# Altium footprint library TecSix16.PcbLib: 32 footprints (part 1 of 2)
Each footprint in its own frame and in the unit in brackets; x right, y up, seen from the top. Pads: shape width x height; smd on the part's side, far side on the other; paste and mask are expansions set on the pad; w line width, h text height; cw(c..) or ccw(c..) is an arc to the next point about the centre after c.
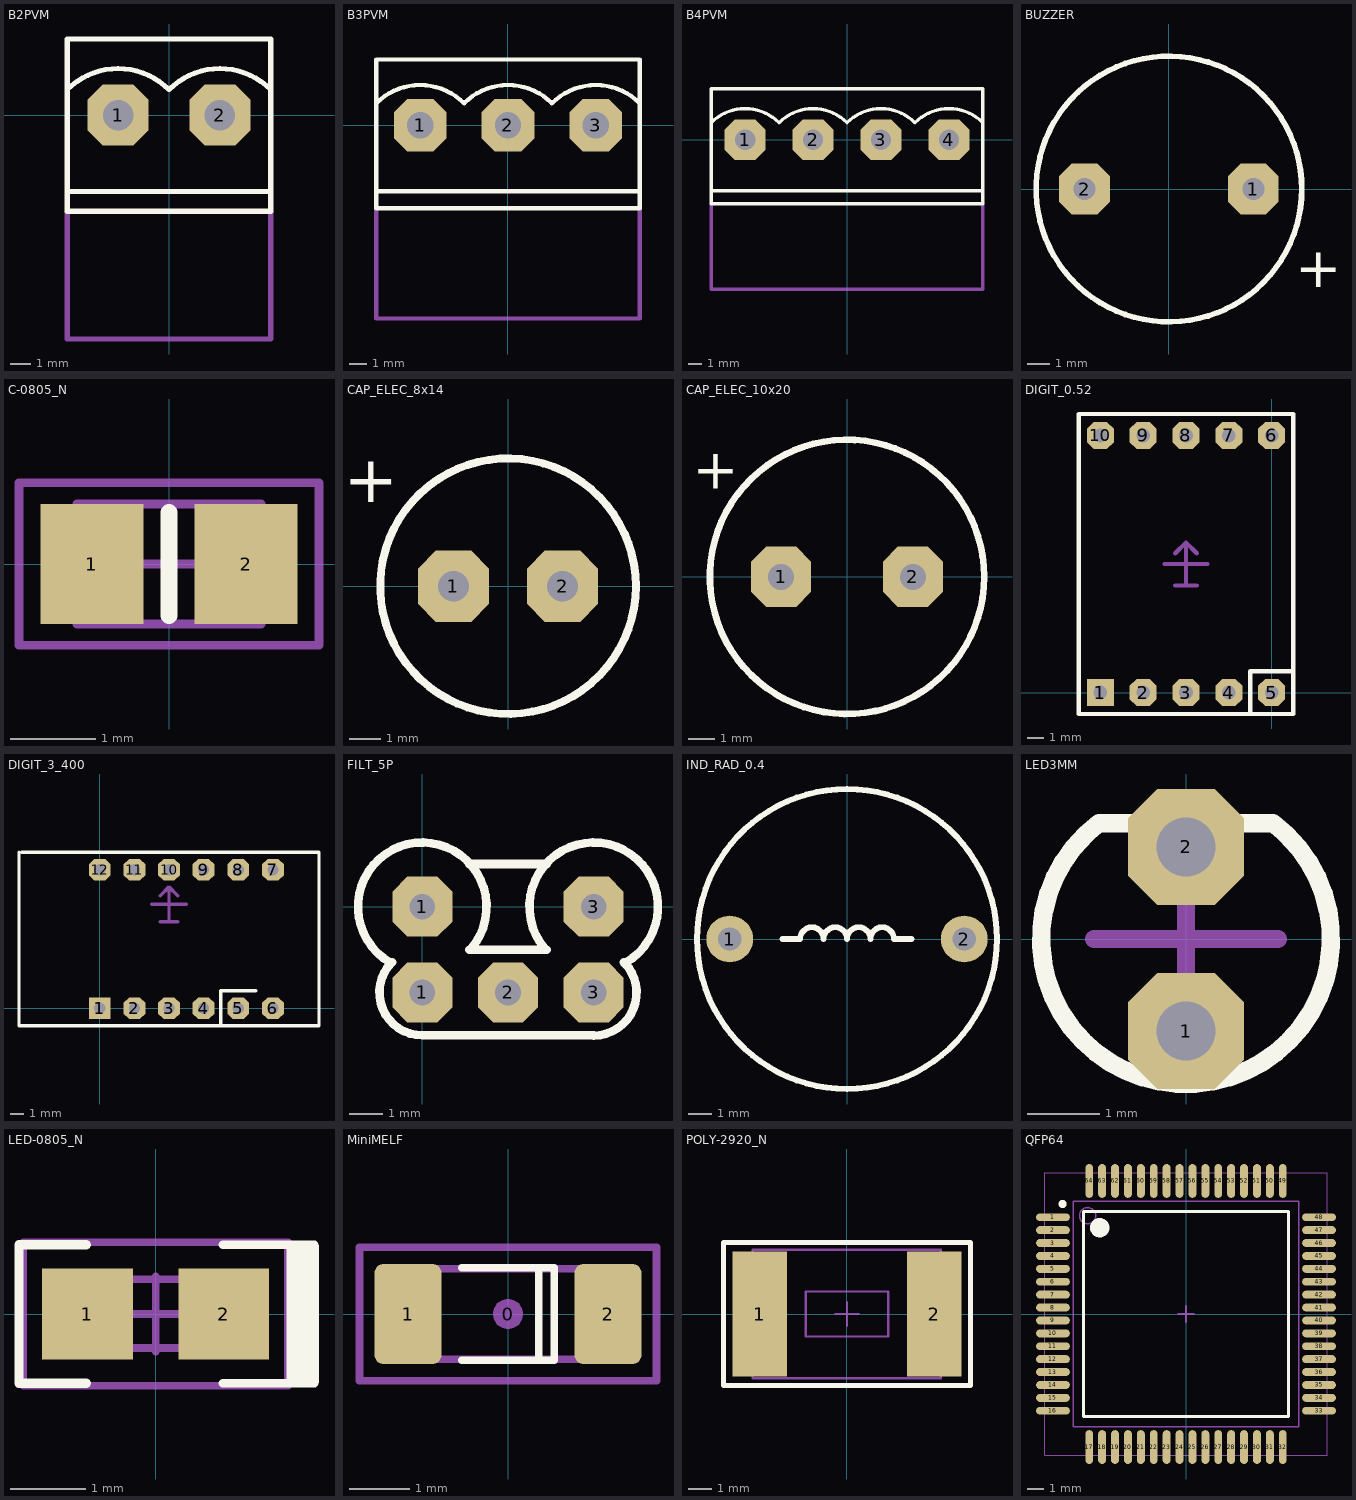
[diagram p0: the footprints below, top view; thin cyan lines are the x and y axes]

## B2PVM [mil] "MSTBV2.5/2-G-5.08,  Xinya XY2500 5.08mm"
height 472.44
pads (2):
  oct 120x120 hole 60: 1(-100,0) 2(100,0)
Top Overlay:
  lines w10: -200,-150 200,-150 ; -200,50 cw(c-100,-50) 0,50 cw(c100,-50) 200,50 ; -200,-188.98 -200,149.61 200,149.61 200,-188.98 -200,-188.98
Mechanical 1:
  lines w10: -200,-190 -200,-440 200,-440 200,-190
3D body: height 472.83, standoff -153.15, extent -200,-188.58 200,150

## B3PVM [mil] "MSTBV2.5/3-G-5.08,  Xinya XY2500 5.08mm"
height 472.44
pads (3):
  oct 120x120 hole 60: 1(-200,0) 2(0,0) 3(200,0)
Top Overlay:
  lines w10: -300,-150 300,-150 ; -299.98,50.05 cw(c-199.98,-49.95) -99.98,50.05 cw(c0.02,-49.95) 100.02,50.05 cw(c200.02,-49.95) 300.02,50.05 ; -300,-188.98 -300,149.61 300,149.61 300,-188.98 -300,-188.98
Mechanical 1:
  lines w10: -300,-190 -300,-440 300,-440 300,-190
3D body: height 472.83, standoff -153.15, extent -300,-188.58 300,150

## B4PVM [mil] "MSTBV2.5/4-G-5.08,  Xinya XY2500 5.08mm"
height 472.44
pads (4):
  oct 120x120 hole 60: 1(-300,0) 2(-100,0) 3(100,0) 4(300,0)
Top Overlay:
  lines w10: -400,-150 400,-150 ; -400,50 cw(c-300,-50) -200,50 cw(c-100.02,-49.98) -0.02,50.02 cw(c99.98,-49.98) 199.98,50.02 cw(c299.98,-49.98) 399.98,50.02 ; -400,-188.98 400,-188.98 400,149.61 -400,149.61 -400,-188.98
Mechanical 1:
  lines w10: -400,-190 -400,-440 400,-440 400,-190
3D body: height 472.83, standoff -153.15, extent -400,-188.58 400,150

## BUZZER [mil]
height 299.21
pads (2):
  oct 90x90 hole 39: 1(150,0) 2(-150,0)
Top Overlay:
  circle w10: c0,0 r236.22
  text "+" at 225,-175 h72
3D body: height 379.92, standoff -177.17, extent -240,-236.22 368.43,236.22

## C-0805_N [mm] "Chip Capacitor, Body 2.0x1.2mm, IPC Medium Density"
height 1.35
pads (2):
  rect 1.2x1.4 smd: 1(-0.9,0) 2(0.9,0)
Top Overlay:
  lines w0.2: 0,-0.6 0,0.6
Mechanical 13:
  lines w0.1: -1.075,-0.7 1.075,-0.7 1.075,0.7 -1.075,0.7 -1.075,-0.7
Mechanical 15:
  lines w0.1: -0.5,0 0.5,0 ; 0,-0.5 0,0.5 ; -1.75,-0.95 1.75,-0.95 1.75,0.95 -1.75,0.95 -1.75,-0.95
3D body: height 1.34, standoff -0.01, extent -1.1,-0.725 1.1,0.725

## CAP_ELEC_8x14 [mil] "Electrolytic capacitor 3.5mm pitch 8x14mm"
height 551.18
pads (2):
  oct 90x90 hole 39: 1(-68.9,0) 2(68.9,0)
Top Overlay:
  circle w10: c0,0 r161.42
  text "+" at -138.78,157.48 h60
3D body: height 566.93, standoff -114.17, extent -161.41,-161.41 161.42,161.42

## CAP_ELEC_10x20 [mil] "Electrolytic capacitor 0.2mm pitch 10x20mm"
height 787.4
pads (2):
  oct 90x90 hole 39: 1(-98.43,0) 2(98.43,0)
Top Overlay:
  circle w10: c0,0 r204.72
  text "+" at -161.42,183.07 h60
3D body: height 800, standoff -114.17, extent -200,-199.48 200,199.5

## DIGIT_0.52 [mil] "7 segment single digit 13.2mm (0.52\")"
height 275.59
pads (10):
  rect 63x63 hole 32: 1(-400,0)
  oct 63x63 hole 32: 2(-300,0) 3(-200,0) 4(-100,0) 5(0,0) 6(0,600) 7(-100,600) 8(-200,600) 9(-300,600) 10(-400,600)
Top Overlay:
  lines w10: -50,-50 -50,50 50,50 ; -450,-50 50,-50 50,650 -450,650 -450,-50
Mechanical 1:
  lines w10: -250,300 -150,300 ; -225,250 -175,250 ; -225,325 -200,350 ; -200,250 -200,350 ; -175,325 -200,350
3D body: height 276, standoff -157.07, extent -444.09,-44.48 44.1,644.49

## DIGIT_3_400 [mil] "7 segment single digit 400"
height 275.59
pads (12):
  rect 63x63 hole 32: 1(0,0)
  oct 63x63 hole 32: 2(100,0) 3(200,0) 4(300,0) 5(400,0) 6(500,0) 7(500,400) 8(400,400) 9(300,400) 10(200,400) 11(100,400) 12(0,400)
Top Overlay:
  lines w10: -233.07,450 -233.07,-50 633.07,-50 633.07,450 -225,450 ; 350,-50 350,50 450,50
Mechanical 1:
  lines w10: 150,300 250,300 ; 175,250 225,250 ; 175,325 200,350 ; 200,250 200,350 ; 225,325 200,350

## FILT_5P [mil]
height 472.44
pads (5):
  oct 70x70 hole 30: 1(0,-100) 1(0,0) 2(100,-100) 3(200,-100) 3(200,0)
Top Overlay:
  lines w10: -37.5,-64.95 cw(c0,0) 57.45,-48.21 ; -35.36,-64.64 ccw(c0,-100) 0,-150 200,-150 ; 55,-50.13 145,-50.13 ; 55,49.87 145,49.87 ; 142.55,-48.21 cw(c200,0) 237.5,-64.95 ; 200,-150.25 ccw(c200,-100.25) 235.36,-64.9

## IND_RAD_0.4 [mil] "Radial vertical inductor 0.4in"
height 551.18
pads (2):
  round 80 hole 40: 1(-200,0) 2(200,0)
Top Overlay:
  circle w10: c0,0 r255.91
  lines w10: -110,0 -80,0 cw(c-60,0) -40,0 cw(c-20,0) 0,0 cw(c20,0) 40,0 cw(c60,0) 80,0 110,0

## LED3MM [mil]
height 472.44
pads (2):
  oct 63x63 hole 32: 1(0,-50) 2(0,50)
Top Overlay:
  lines w10: -47.24,62.99 ccw(c0,0) 47.24,62.99 -47.24,62.99
Mechanical 1:
  lines w10: -50,0 50,0 ; 0,-50 0,50
3D body: height 181.1, standoff -255.91, extent -78.74,-78.52 78.74,65.61

## LED-0805_N [mm] "LED Body 2.0x1.2mm, IPC Medium Density"
height 1.2
pads (2):
  rect 1.2x1.2 smd: 1(-0.9,0) 2(0.9,0)
Top Overlay:
  rectangle: 1.727,-0.914 2.159,0.914
  lines w0.11: 0.889,-0.914 2.1,-0.914 ; 0.889,0.914 2.1,0.914
  lines w0.125: -0.914,-0.914 -1.803,-0.914 -1.803,0.914 -0.914,0.914
Mechanical 13:
  lines w0.1: -1.075,-0.449 1.075,-0.449 1.075,0.457 -1.075,0.457 -1.075,-0.449
Mechanical 15:
  lines w0.1: -0.5,0 0.5,0 ; 0,-0.5 0,0.5 ; -1.75,-0.95 1.75,-0.95 1.75,0.95 -1.75,0.95 -1.75,-0.95
3D body: height 0.85, standoff 0.01, extent -1.031,-0.449 1.031,0.457

## MiniMELF [mm] "Diode, MiniMELF SOD-80"
height 1.6
pads (3):
  round 0.5 on Mech15: 0(0,0)
  rrect25% 1.1x1.65 smd: 1(-1.65,0) 2(1.65,0)
Top Overlay:
  lines w0.127: -0.762,-0.762 0.762,-0.762 0.762,0.762 -0.762,0.762 ; 0.508,-0.762 0.508,0.762
Mechanical 13:
  lines w0.127: -1.8,-0.747 1.8,-0.747 1.8,0.747 -1.8,0.747 -1.8,-0.747
Mechanical 15:
  lines w0.127: -2.45,-1.1 2.45,-1.1 2.45,1.1 -2.45,1.1 -2.45,-1.1
3D body: height 1.47, standoff -0.01, extent -1.8,-0.747 1.8,0.747

## POLY-2920_N [mm] "Chip Polyswitch, Body 7.4x5.1mm, IPC Medium Density"
height 0.7
pads (2):
  rect 2.3x5.3 smd: 1(-3.7,0) 2(3.7,0)
Top Overlay:
  lines w0.203: -5.225,-3.025 5.225,-3.025 5.225,3.025 -5.225,3.025 -5.225,-3.025
Mechanical 13:
  lines w0.1: -4,-2.725 3.975,-2.725 3.975,2.725 -4,2.725 -4,-2.725
Mechanical 15:
  lines w0.1: -0.5,0 0.5,0 ; 0,-0.5 0,0.5 ; -1.75,-0.95 1.75,-0.95 1.75,0.95 -1.75,0.95 -1.75,-0.95
3D body: height 0.79, standoff -0.01, extent -3.99,-2.72 3.99,2.72

## QFP64 [mm] "QFP, 64-Leads, Body 14x14mm, Pitch 0.8mm, IPC Medium Density"
height 1.2
pads (64):
  oval 2.1x0.489 smd: 1(-8.25,6) 2(-8.25,5.2) 3(-8.25,4.4) 4(-8.25,3.6) 5(-8.25,2.8) 6(-8.25,2) 7(-8.25,1.2) 8(-8.25,0.4) 9(-8.25,-0.4) 10(-8.25,-1.2) 11(-8.25,-2) 12(-8.25,-2.8) 13(-8.25,-3.6) 14(-8.25,-4.4) 15(-8.25,-5.2) 16(-8.25,-6) 33(8.25,-6) 34(8.25,-5.2) 35(8.25,-4.4) 36(8.25,-3.6) 37(8.25,-2.8) 38(8.25,-2) 39(8.25,-1.2) 40(8.25,-0.4) 41(8.25,0.4) 42(8.25,1.2) 43(8.25,2) 44(8.25,2.8) 45(8.25,3.6) 46(8.25,4.4) 47(8.25,5.2) 48(8.25,6)
  oval 0.489x2.1 smd: 17(-6,-8.25) 18(-5.2,-8.25) 19(-4.4,-8.25) 20(-3.6,-8.25) 21(-2.8,-8.25) 22(-2,-8.25) 23(-1.2,-8.25) 24(-0.4,-8.25) 25(0.4,-8.25) 26(1.2,-8.25) 27(2,-8.25) 28(2.8,-8.25) 29(3.6,-8.25) 30(4.4,-8.25) 31(5.2,-8.25) 32(6,-8.25) 49(6,8.25) 50(5.2,8.25) 51(4.4,8.25) 52(3.6,8.25) 53(2.8,8.25) 54(2,8.25) 55(1.2,8.25) 56(0.4,8.25) 57(-0.4,8.25) 58(-1.2,8.25) 59(-2,8.25) 60(-2.8,8.25) 61(-3.6,8.25) 62(-4.4,8.25) 63(-5.2,8.25) 64(-6,8.25)
Top Overlay:
  circle w0.25: c-7.65,6.825 r0.125
  circle w0.6: c-5.35,5.35 r0.3
  lines w0.2: -6.35,-6.35 -6.35,6.35 6.35,6.35 6.35,-6.35 -6.35,-6.35
Mechanical 13:
  circle w0.1: c-6.1,6.1 r0.5
  lines w0.1: -7,-7 -7,7 7,7 7,-7 -7,-7
Mechanical 15:
  lines w0.05: -8.75,-8.75 -8.75,8.75 8.75,8.75 8.75,-8.75 -8.75,-8.75
  lines w0.1: -0.5,0 0.5,0 ; 0,-0.5 0,0.5
3D body: height 2.9, standoff -0.03, extent -7.9,-7.9 7.9,7.9